# EAGLE library part FRAM_ADAFRUIT_MB85RSMT (library APU_Motherboard_Library)
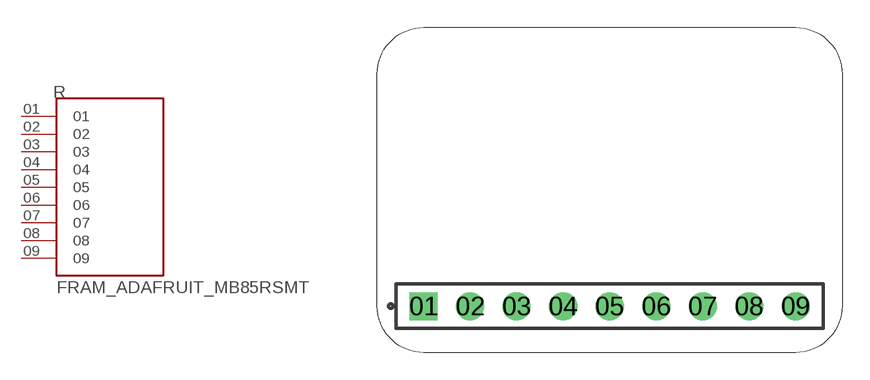
[diagram p5: symbol with the pads of FRAM_ADAFRUIT_MB85RSMT; footprint FRAM_ADAFRUIT_MB85RSMT]

Designator prefix R

## FRAM_ADAFRUIT_MB85RSMT  [FRAM_ADAFRUIT_MB85RSMT]
01  01  pas
02  02  pas
03  03  pas
04  04  pas
05  05  pas
06  06  pas
07  07  pas
08  08  pas
09  09  pas

## Footprint FRAM_ADAFRUIT_MB85RSMT (pad centres in mm)
drill 1.02 pad 1.37 square: 01 -0.381,0
drill 1.02 pad 1.37: 02 2.159,0; 03 4.699,0; 04 7.239,0; 05 9.779,0; 06 12.319,0; 07 14.859,0; 08 17.399,0; 09 19.939,0